# EAGLE library part 2N7002BK (library nxp_60_1_1)
60 V, 340 mA dual N-channel Trench MOSFET Dual N-channel enhancement mode Field-Effect Transistor (FET) in an ultra small SOT666 Surface-Mounted Device (SMD) plastic package using Trench MOSFET technology. AAL Eindhoven MK
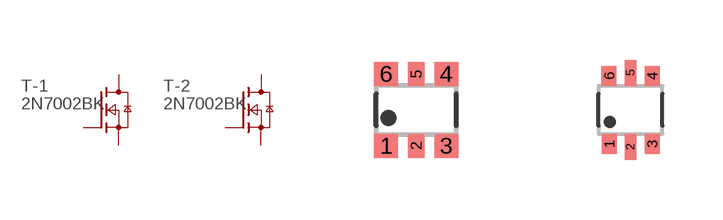
[diagram p112: symbol with the pads of SOT363; footprints SOT363, SOT666]

Designator prefix T; gates -1=N-MOSFET -2=N-MOSFET

## 2N7002BKS  [SOT363]
1  -1:S  pas
2  -1:G  pas
3  -2:D  pas
4  -2:S  pas
5  -2:G  pas
6  -1:D  pas

## 2N7002BKV  [SOT666]
Pads as for SOT363

## Footprint SOT363 (pad centres in mm)
SOT363 Plastic surface-mounted package; 6 leads JEDEC: -- IEC: -- JEITA: SC-88
smd 0.6 x 0.6: 1 -0.75,-0.9; 3 0.75,-0.9; 4 0.75,0.9; 6 -0.75,0.9
smd 0.4 x 0.6: 2 0,-0.9; 5 0,0.9

## Footprint SOT666 (pad centres in mm)
SOT 666 Reflow soldering foorprint Source: Philips - BAS70_1PS7XSB70_SER_8.pdf
smd 0.375 x 0.5: 1 -0.537,-0.85; 3 0.538,-0.85; 4 0.538,0.85; 6 -0.538,0.85
smd 0.3 x 0.65: 2 0,-0.925; 5 0,0.925